# Altium schematic symbol library Header 12H.Schlib: 1 symbol
Pins are listed as number, name and electrical type; pins without a type are passive.

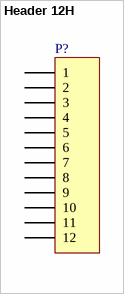
[diagram p0: symbol Header 12H]

## Header 12H
designator P?
Header, 12-Pin, Right Angle
pins: 1, 2, 3, 4, 5, 6, 7, 8, 9, 10, 11, 12